# Altium integrated library 24FC512T.IntLib: 1 symbol
Pins are listed as number, name and electrical type; pins without a type are passive.

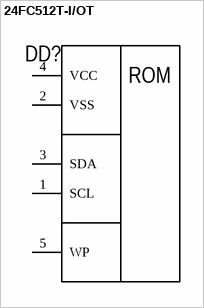
[diagram p0: symbol 24FC512T-I/OT]

## 24FC512T-I/OT
designator DD?  (value not drawn)
512-Kbit I2C Serial EEPROM
footprint SOT-23 (SOT-23, 5-Leads, Body 2.90x1.60 mm, IPC Medium Density)
pins: 1 SCL, 2 VSS, 3 SDA, 4 VCC, 5 WP
text: ROM